# Altium footprint library SparkFun-Boards.PCBLIB: 59 footprints (part 2 of 4)
Each footprint in its own frame and in the unit in brackets; x right, y up, seen from the top. Pads: shape width x height; smd on the part's side, far side on the other; paste and mask are expansions set on the pad; w line width, h text height; cw(c..) or ccw(c..) is an arc to the next point about the centre after c.
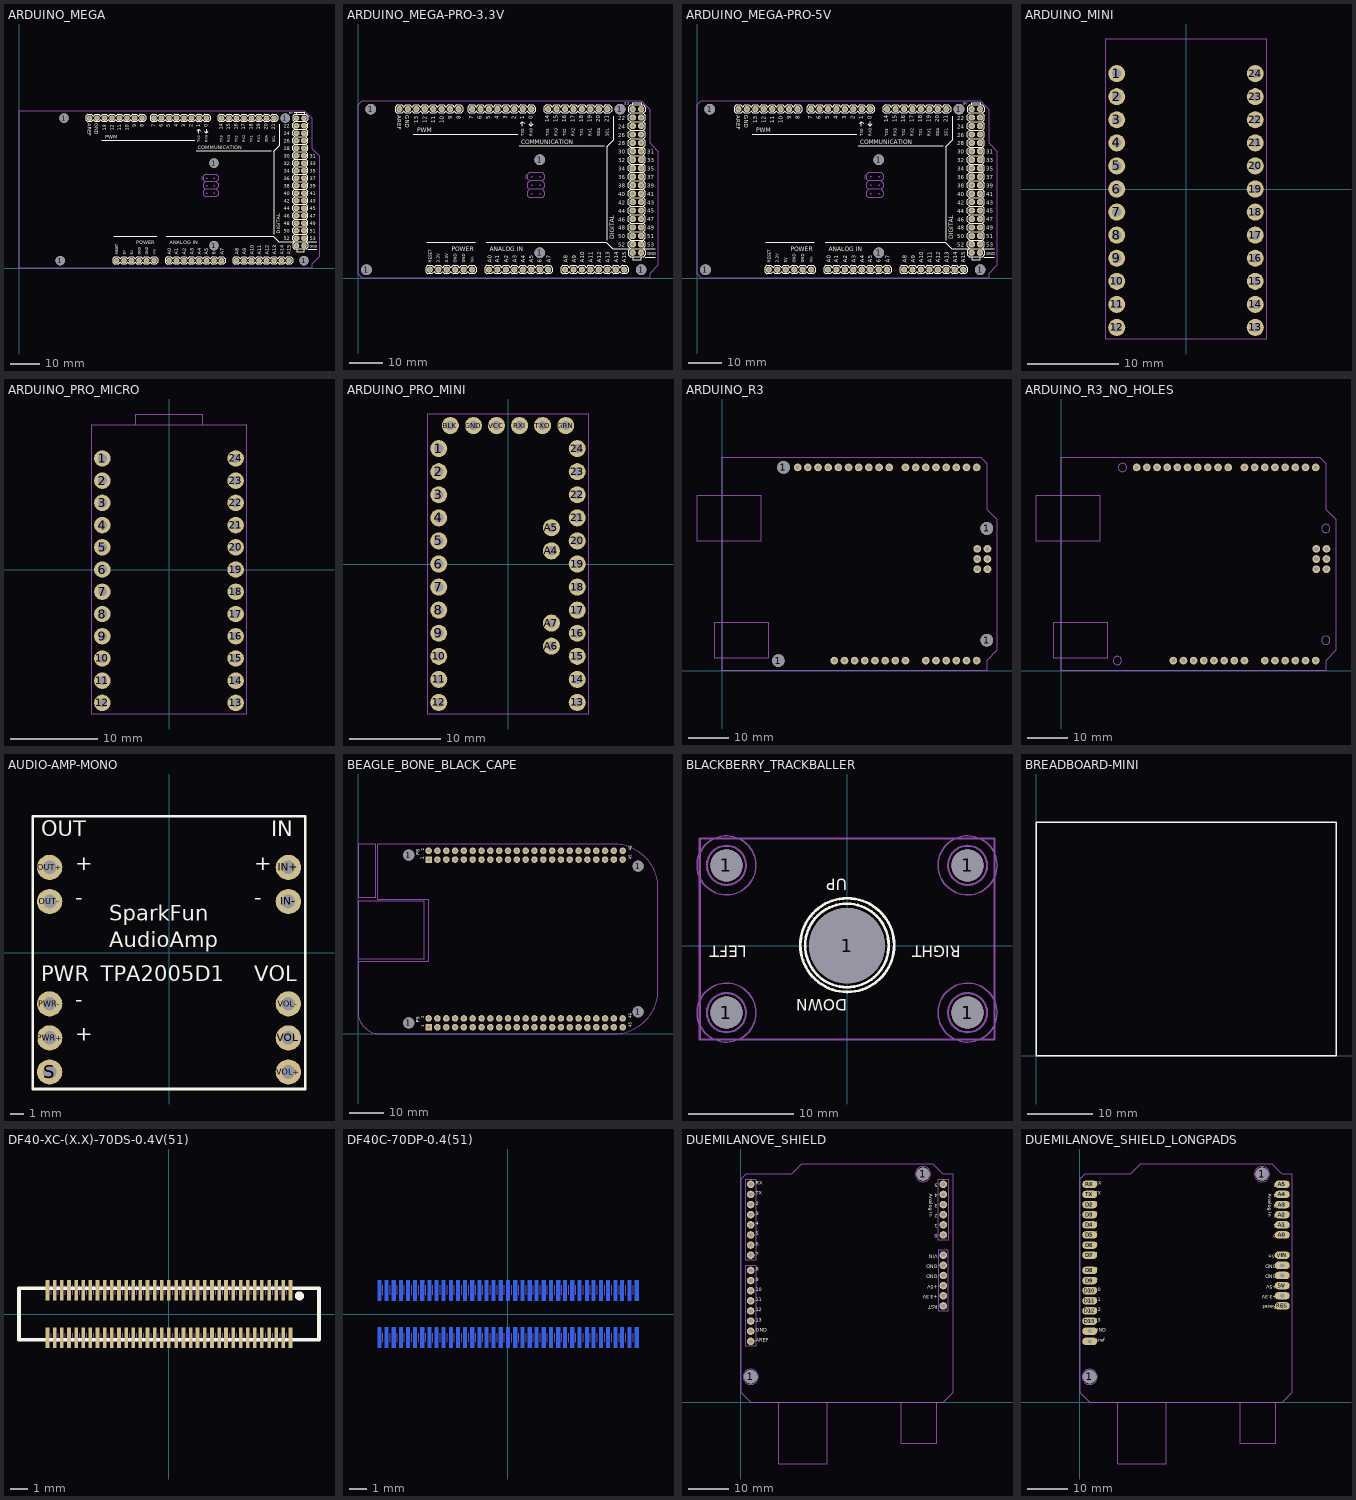
[diagram p1: the footprints below, top view; thin cyan lines are the x and y axes]

## ARDUINO_MEGA [mil]
pads (88):
  round 74 hole 40: 0(2500,2000) 1(2400,2000) 2(2300,2000) 3(2200,2000) 3.3V(1400,100) 4(2100,2000) 5(2000,2000) 5V@0(1500,100) 5V@1(3700,2000) 5V@2(3800,2000) 6(1900,2000) 7(1800,2000) 8(1640,2000) 9(1540,2000) 10(1440,2000) 11(1340,2000) 12(1240,2000) 13(1140,2000) 14(2700,2000) 15(2800,2000) 16(2900,2000) 17(3000,2000) 18(3100,2000) 19(3200,2000) 20(3300,2000) 21(3400,2000) A0(2000,100) A1(2100,100) A2(2200,100) A3(2300,100) A4(2400,100) A5(2500,100) A6(2600,100) A7(2700,100) A8(2900,100) A9(3000,100) A10(3100,100) A11(3200,100) A12(3300,100) A13(3400,100) A14(3500,100) A15(3600,100) AREF(940,2000) GND@0(1600,100) GND@1(1700,100) GND@2(3700,300) GND@3(3800,300) GND@4(1040,2000) RESET(1300,100) VIN(1800,100)
  round 126 hole 126: 1(550,100) 1(600,2000) 1(2600,300) 1(2600,1400) 1(3550,2000) 1(3800,100)
  oct 74x74 hole 40: 22(3700,1900) 23(3800,1900) 24(3700,1800) 25(3800,1800) 26(3700,1700) 27(3800,1700) 28(3700,1600) 29(3800,1600) 30(3700,1500) 31(3800,1500) 32(3700,1400) 33(3800,1400) 34(3700,1300) 35(3800,1300) 36(3700,1200) 37(3800,1200) 38(3700,1100) 39(3800,1100) 40(3700,1000) 41(3800,1000) 42(3700,900) 43(3800,900) 44(3700,800) 45(3800,800) 46(3700,700) 47(3800,700) 48(3700,600) 49(3800,600) 50(3700,500) 51(3800,500) 52(3700,400) 53(3800,400)
Top Overlay:
  drawing of 438 lines, arcs and shapes, not listed
  text "0" at 2515,1880 h47.6
  text "1" at 2415,1880 h47.6
  text "2" at 2315,1880 h47.6
  text "3" at 2215,1880 h47.6
  text "4" at 2115,1880 h47.6
  text "5" at 2015,1880 h47.6
  text "6" at 1915,1880 h47.6
  text "7" at 1815,1880 h47.6
  text "8" at 1665,1880 h47.6
  text "9" at 1565,1880 h47.6
  text "10" at 1465,1830 h47.6
  text "11" at 1365,1830 h47.6
  text "12" at 1265,1830 h47.6
  text "13" at 1165,1830 h47.6
  text "14" at 2715,1845 h47.6
  text "15" at 2815,1845 h47.6
  text "16" at 2915,1845 h47.6
  text "17" at 3015,1845 h47.6
  text "18" at 3115,1845 h47.6
  text "19" at 3215,1845 h47.6
  text "20" at 3315,1845 h47.6
  text "21" at 3415,1845 h47.6
  text "22" at 3531,1870 h47.6
  text "24" at 3531,1770 h47.6
  text "26" at 3531,1670 h47.6
  text "28" at 3531,1570 h47.6
  text "30" at 3531,1470 h47.6
  text "32" at 3531,1370 h47.6
  text "34" at 3531,1270 h47.6
  text "36" at 3531,1170 h47.6
  text "38" at 3531,1070 h47.6
  text "40" at 3531,970 h47.6
  text "42" at 3531,870 h47.6
  text "44" at 3531,770 h47.6
  text "46" at 3531,670 h47.6
  text "50" at 3531,470 h47.6
  text "48" at 3531,570 h47.6
  text "52" at 3531,370 h47.6
  text "31" at 3875,1471 h47.6
  text "33" at 3875,1371 h47.6
  text "35" at 3875,1271 h47.6
  text "37" at 3875,1171 h47.6
  text "39" at 3875,1071 h47.6
  text "41" at 3875,971 h47.6
  text "43" at 3875,871 h47.6
  text "45" at 3875,771 h47.6
  text "47" at 3875,671 h47.6
  text "49" at 3875,571 h47.6
  text "51" at 3875,471 h47.6
  text "53" at 3875,371 h47.6
  text "A0" at 2030,181 h47.6
  text "A1" at 2120,181 h47.6
  text "A2" at 2230,181 h47.6
  text "A3" at 2330,181 h47.6
  text "A4" at 2430,181 h47.6
  text "A5" at 2525,181 h47.6
  text "6" at 2625,181 h47.6
  text "A7" at 2730,181 h47.6
  text "A8" at 2930,181 h47.6
  text "A9" at 3030,181 h47.6
  text "A10" at 3130,181 h47.6
  text "A11" at 3230,181 h47.6
  text "A12" at 3330,181 h47.6
  text "A13" at 3430,181 h47.6
  text "A14" at 3530,181 h47.6
  text "A15" at 3625,181 h47.6
  text "ANALOG IN" at 2010,320 h51
  text "COMMUNICATION" at 2380,1585 h51
  text "DIGITAL" at 3485,460 h51
  text "GND" at 3875,271 h34
  text "TX0" at 2415,1680 h34
  text "RX0" at 2515,1680 h34
  text "PWM" at 1150,1725 h51
  text "TX3" at 2715,1680 h34
  text "RX3" at 2815,1680 h34
  text "TX2" at 2915,1680 h34
  text "RX2" at 3015,1680 h34
  text "TX1" at 3115,1680 h34
  text "RX1" at 3215,1680 h34
  text "SDA" at 3315,1680 h34
  text "SCL" at 3415,1680 h34
  text "POWER" at 1560,320 h51
  text "RESET" at 1320,181 h34
  text "5V" at 1420,181 h34
  text "5V" at 1520,181 h34
  text "GND" at 1620,181 h34
  text "GND" at 1720,181 h34
  text "Vin" at 1820,181 h34
  text "GND" at 1010,1930 h47.6
  text "AREF" at 915,1930 h47.6
  text "5V" at 3600,2050 h29.75
Mechanical 16:
  rectangle: 3490,90 3510,110
  rectangle: 3390,90 3410,110
  rectangle: 3290,90 3310,110
  rectangle: 3190,90 3210,110
  rectangle: 3090,90 3110,110
  rectangle: 2990,90 3010,110
  rectangle: 2890,90 2910,110
  rectangle: 3590,90 3610,110
  rectangle: 3290,1990 3310,2010
  rectangle: 3190,1990 3210,2010
  rectangle: 3090,1990 3110,2010
  rectangle: 2990,1990 3010,2010
  rectangle: 2890,1990 2910,2010
  rectangle: 2790,1990 2810,2010
  rectangle: 2690,1990 2710,2010
  rectangle: 3390,1990 3410,2010
  rectangle: 2590,90 2610,110
  rectangle: 2490,90 2510,110
  rectangle: 2390,90 2410,110
  rectangle: 2290,90 2310,110
  rectangle: 2190,90 2210,110
  rectangle: 2090,90 2110,110
  rectangle: 1990,90 2010,110
  rectangle: 2690,90 2710,110
  rectangle: 2390,1990 2410,2010
  rectangle: 2290,1990 2310,2010
  rectangle: 2190,1990 2210,2010
  rectangle: 2090,1990 2110,2010
  rectangle: 1990,1990 2010,2010
  rectangle: 1890,1990 1910,2010
  rectangle: 1790,1990 1810,2010
  rectangle: 2490,1990 2510,2010
  rectangle: 1530,1990 1550,2010
  rectangle: 1430,1990 1450,2010
  rectangle: 1330,1990 1350,2010
  rectangle: 1230,1990 1250,2010
  rectangle: 1130,1990 1150,2010
  rectangle: 1030,1990 1050,2010
  rectangle: 930,1990 950,2010
  rectangle: 1630,1990 1650,2010
  region: 2495,1210 2495,1190 2515,1190 2515,1210
  region: 2595,1210 2595,1190 2615,1190 2615,1210
  region: 2595,1110 2595,1090 2615,1090 2615,1110
  region: 2495,1110 2495,1090 2515,1090 2515,1110
  region: 2595,1010 2595,990 2615,990 2615,1010
  region: 2495,1010 2495,990 2515,990 2515,1010
  region: 3810,1190 3810,1210 3790,1210 3790,1190
  region: 3710,1190 3710,1210 3690,1210 3690,1190
  region: 3710,1290 3710,1310 3690,1310 3690,1290
  region: 3810,1290 3810,1310 3790,1310 3790,1290
  region: 3710,1390 3710,1410 3690,1410 3690,1390
  region: 3810,1390 3810,1410 3790,1410 3790,1390
  region: 3710,1490 3710,1510 3690,1510 3690,1490
  region: 3710,1590 3710,1610 3690,1610 3690,1590
  region: 3710,1690 3710,1710 3690,1710 3690,1690
  region: 3810,1490 3810,1510 3790,1510 3790,1490
  region: 3810,1590 3810,1610 3790,1610 3790,1590
  region: 3810,1690 3810,1710 3790,1710 3790,1690
  region: 3710,1790 3710,1810 3690,1810 3690,1790
  region: 3810,1790 3810,1810 3790,1810 3790,1790
  region: 3710,1890 3710,1910 3690,1910 3690,1890
  region: 3810,1890 3810,1910 3790,1910 3790,1890
  region: 3810,390 3810,410 3790,410 3790,390
  region: 3710,390 3710,410 3690,410 3690,390
  region: 3710,490 3710,510 3690,510 3690,490
  region: 3810,490 3810,510 3790,510 3790,490
  region: 3710,590 3710,610 3690,610 3690,590
  region: 3810,590 3810,610 3790,610 3790,590
  region: 3710,690 3710,710 3690,710 3690,690
  region: 3710,790 3710,810 3690,810 3690,790
  region: 3710,890 3710,910 3690,910 3690,890
  region: 3810,690 3810,710 3790,710 3790,690
  region: 3810,790 3810,810 3790,810 3790,790
  region: 3810,890 3810,910 3790,910 3790,890
  region: 3710,990 3710,1010 3690,1010 3690,990
  region: 3810,990 3810,1010 3790,1010 3790,990
  region: 3710,1090 3710,1110 3690,1110 3690,1090
  region: 3810,1090 3810,1110 3790,1110 3790,1090
  rectangle: 3790,290 3810,310
  rectangle: 3690,290 3710,310
  rectangle: 3790,1990 3810,2010
  rectangle: 3690,1990 3710,2010
  rectangle: 1790,90 1810,110
  rectangle: 1690,90 1710,110
  rectangle: 1590,90 1610,110
  rectangle: 1490,90 1510,110
  rectangle: 1390,90 1410,110
  rectangle: 1290,90 1310,110
  lines w8: 2442,1175 2442,1225 ; 2480,1050 2455,1075 2455,1125 2480,1150 ; 2480,1050 2455,1025 2455,975 2480,950 2630,950 2655,975 2655,1025 2630,1050 ; 2480,1050 2630,1050 ; 2480,1150 2455,1175 2455,1225 2480,1250 2630,1250 2655,1225 2655,1175 2630,1150 ; 2480,1150 2630,1150 ; 2630,1050 2655,1075 2655,1125 2630,1150 ; 0,0 3900,0 3900,50 4000,150 4000,1500 3900,1600 3900,2000 3800,2100 0,2100 0,0

## ARDUINO_MEGA-PRO-3.3V [mil]
pads (88):
  round 74 hole 40: 0(2050,2000) 1(1950,2000) 2(1850,2000) 3(1750,2000) 3.3V(950,100) 4(1650,2000) 5(1550,2000) 5V@0(1050,100) 5V@1(3250,2000) 5V@2(3350,2000) 6(1450,2000) 7(1350,2000) 8(1190,2000) 9(1090,2000) 10(990,2000) 11(890,2000) 12(790,2000) 13(690,2000) 14(2250,2000) 15(2350,2000) 16(2450,2000) 17(2550,2000) 18(2650,2000) 19(2750,2000) 20(2850,2000) 21(2950,2000) A0(1550,100) A1(1650,100) A2(1750,100) A3(1850,100) A4(1950,100) A5(2050,100) A6(2150,100) A7(2250,100) A8(2450,100) A9(2550,100) A10(2650,100) A11(2750,100) A12(2850,100) A13(2950,100) A14(3050,100) A15(3150,100) AREF(490,2000) GND@0(1150,100) GND@1(1250,100) GND@2(3250,300) GND@3(3350,300) GND@4(590,2000) RESET(850,100) VIN(1350,100)
  round 126 hole 126: 1(100,100) 1(150,2000) 1(2150,300) 1(2150,1400) 1(3100,2000) 1(3350,100)
  oct 74x74 hole 40: 22(3250,1900) 23(3350,1900) 24(3250,1800) 25(3350,1800) 26(3250,1700) 27(3350,1700) 28(3250,1600) 29(3350,1600) 30(3250,1500) 31(3350,1500) 32(3250,1400) 33(3350,1400) 34(3250,1300) 35(3350,1300) 36(3250,1200) 37(3350,1200) 38(3250,1100) 39(3350,1100) 40(3250,1000) 41(3350,1000) 42(3250,900) 43(3350,900) 44(3250,800) 45(3350,800) 46(3250,700) 47(3350,700) 48(3250,600) 49(3350,600) 50(3250,500) 51(3350,500) 52(3250,400) 53(3350,400)
Top Overlay:
  drawing of 437 lines, arcs and shapes, not listed
  text "0" at 2065,1880 h47.6
  text "1" at 1965,1880 h47.6
  text "2" at 1865,1880 h47.6
  text "3" at 1765,1880 h47.6
  text "4" at 1665,1880 h47.6
  text "5" at 1565,1880 h47.6
  text "6" at 1465,1880 h47.6
  text "7" at 1365,1880 h47.6
  text "8" at 1215,1880 h47.6
  text "9" at 1115,1880 h47.6
  text "10" at 1015,1830 h47.6
  text "11" at 915,1830 h47.6
  text "12" at 815,1830 h47.6
  text "13" at 715,1830 h47.6
  text "14" at 2265,1845 h47.6
  text "15" at 2365,1845 h47.6
  text "16" at 2465,1845 h47.6
  text "17" at 2565,1845 h47.6
  text "18" at 2665,1845 h47.6
  text "19" at 2765,1845 h47.6
  text "20" at 2865,1845 h47.6
  text "21" at 2965,1845 h47.6
  text "22" at 3081,1870 h47.6
  text "24" at 3081,1770 h47.6
  text "26" at 3081,1670 h47.6
  text "28" at 3081,1570 h47.6
  text "30" at 3081,1470 h47.6
  text "32" at 3081,1370 h47.6
  text "34" at 3081,1270 h47.6
  text "36" at 3081,1170 h47.6
  text "38" at 3081,1070 h47.6
  text "40" at 3081,970 h47.6
  text "42" at 3081,870 h47.6
  text "44" at 3081,770 h47.6
  text "46" at 3081,670 h47.6
  text "50" at 3081,470 h47.6
  text "48" at 3081,570 h47.6
  text "52" at 3081,370 h47.6
  text "31" at 3425,1471 h47.6
  text "33" at 3425,1371 h47.6
  text "35" at 3425,1271 h47.6
  text "37" at 3425,1171 h47.6
  text "39" at 3425,1071 h47.6
  text "41" at 3425,971 h47.6
  text "43" at 3425,871 h47.6
  text "45" at 3425,771 h47.6
  text "47" at 3425,671 h47.6
  text "49" at 3425,571 h47.6
  text "51" at 3425,471 h47.6
  text "53" at 3425,371 h47.6
  text "A0" at 1580,181 h47.6
  text "A1" at 1670,181 h47.6
  text "A2" at 1780,181 h47.6
  text "A3" at 1880,181 h47.6
  text "A4" at 1980,181 h47.6
  text "A5" at 2075,181 h47.6
  text "6" at 2175,181 h47.6
  text "A7" at 2280,181 h47.6
  text "A8" at 2480,181 h47.6
  text "A9" at 2580,181 h47.6
  text "A10" at 2680,181 h47.6
  text "A11" at 2780,181 h47.6
  text "A12" at 2880,181 h47.6
  text "A13" at 2980,181 h47.6
  text "A14" at 3080,181 h47.6
  text "A15" at 3175,181 h47.6
  text "ANALOG IN" at 1560,320 h51
  text "COMMUNICATION" at 1930,1585 h51
  text "DIGITAL" at 3035,460 h51
  text "GND" at 3425,271 h34
  text "TX0" at 1965,1680 h34
  text "RX0" at 2065,1680 h34
  text "PWM" at 700,1725 h51
  text "TX3" at 2265,1680 h34
  text "RX3" at 2365,1680 h34
  text "TX2" at 2465,1680 h34
  text "RX2" at 2565,1680 h34
  text "TX1" at 2665,1680 h34
  text "RX1" at 2765,1680 h34
  text "SDA" at 2865,1680 h34
  text "SCL" at 2965,1680 h34
  text "POWER" at 1110,320 h51
  text "RESET" at 870,181 h34
  text "3.3V" at 970,181 h34
  text "3.3V" at 1070,181 h34
  text "GND" at 1170,181 h34
  text "GND" at 1270,181 h34
  text "Vin" at 1370,181 h34
  text "GND" at 560,1930 h47.6
  text "AREF" at 465,1930 h47.6
  text "3.3" at 3150,2050 h29.75
Mechanical 16:
  rectangle: 3040,90 3060,110
  rectangle: 2940,90 2960,110
  rectangle: 2840,90 2860,110
  rectangle: 2740,90 2760,110
  rectangle: 2640,90 2660,110
  rectangle: 2540,90 2560,110
  rectangle: 2440,90 2460,110
  rectangle: 3140,90 3160,110
  rectangle: 2840,1990 2860,2010
  rectangle: 2740,1990 2760,2010
  rectangle: 2640,1990 2660,2010
  rectangle: 2540,1990 2560,2010
  rectangle: 2440,1990 2460,2010
  rectangle: 2340,1990 2360,2010
  rectangle: 2240,1990 2260,2010
  rectangle: 2940,1990 2960,2010
  rectangle: 2140,90 2160,110
  rectangle: 2040,90 2060,110
  rectangle: 1940,90 1960,110
  rectangle: 1840,90 1860,110
  rectangle: 1740,90 1760,110
  rectangle: 1640,90 1660,110
  rectangle: 1540,90 1560,110
  rectangle: 2240,90 2260,110
  rectangle: 1940,1990 1960,2010
  rectangle: 1840,1990 1860,2010
  rectangle: 1740,1990 1760,2010
  rectangle: 1640,1990 1660,2010
  rectangle: 1540,1990 1560,2010
  rectangle: 1440,1990 1460,2010
  rectangle: 1340,1990 1360,2010
  rectangle: 2040,1990 2060,2010
  rectangle: 1080,1990 1100,2010
  rectangle: 980,1990 1000,2010
  rectangle: 880,1990 900,2010
  rectangle: 780,1990 800,2010
  rectangle: 680,1990 700,2010
  rectangle: 580,1990 600,2010
  rectangle: 480,1990 500,2010
  rectangle: 1180,1990 1200,2010
  region: 2045,1210 2045,1190 2065,1190 2065,1210
  region: 2145,1210 2145,1190 2165,1190 2165,1210
  region: 2145,1110 2145,1090 2165,1090 2165,1110
  region: 2045,1110 2045,1090 2065,1090 2065,1110
  region: 2145,1010 2145,990 2165,990 2165,1010
  region: 2045,1010 2045,990 2065,990 2065,1010
  region: 3360,1190 3360,1210 3340,1210 3340,1190
  region: 3260,1190 3260,1210 3240,1210 3240,1190
  region: 3260,1290 3260,1310 3240,1310 3240,1290
  region: 3360,1290 3360,1310 3340,1310 3340,1290
  region: 3260,1390 3260,1410 3240,1410 3240,1390
  region: 3360,1390 3360,1410 3340,1410 3340,1390
  region: 3260,1490 3260,1510 3240,1510 3240,1490
  region: 3260,1590 3260,1610 3240,1610 3240,1590
  region: 3260,1690 3260,1710 3240,1710 3240,1690
  region: 3360,1490 3360,1510 3340,1510 3340,1490
  region: 3360,1590 3360,1610 3340,1610 3340,1590
  region: 3360,1690 3360,1710 3340,1710 3340,1690
  region: 3260,1790 3260,1810 3240,1810 3240,1790
  region: 3360,1790 3360,1810 3340,1810 3340,1790
  region: 3260,1890 3260,1910 3240,1910 3240,1890
  region: 3360,1890 3360,1910 3340,1910 3340,1890
  region: 3360,390 3360,410 3340,410 3340,390
  region: 3260,390 3260,410 3240,410 3240,390
  region: 3260,490 3260,510 3240,510 3240,490
  region: 3360,490 3360,510 3340,510 3340,490
  region: 3260,590 3260,610 3240,610 3240,590
  region: 3360,590 3360,610 3340,610 3340,590
  region: 3260,690 3260,710 3240,710 3240,690
  region: 3260,790 3260,810 3240,810 3240,790
  region: 3260,890 3260,910 3240,910 3240,890
  region: 3360,690 3360,710 3340,710 3340,690
  region: 3360,790 3360,810 3340,810 3340,790
  region: 3360,890 3360,910 3340,910 3340,890
  region: 3260,990 3260,1010 3240,1010 3240,990
  region: 3360,990 3360,1010 3340,1010 3340,990
  region: 3260,1090 3260,1110 3240,1110 3240,1090
  region: 3360,1090 3360,1110 3340,1110 3340,1090
  rectangle: 3340,290 3360,310
  rectangle: 3240,290 3260,310
  rectangle: 3340,1990 3360,2010
  rectangle: 3240,1990 3260,2010
  rectangle: 1340,90 1360,110
  rectangle: 1240,90 1260,110
  rectangle: 1140,90 1160,110
  rectangle: 1040,90 1060,110
  rectangle: 940,90 960,110
  rectangle: 840,90 860,110
  lines w8: 1992,1175 1992,1225 ; 2030,1050 2005,1075 2005,1125 2030,1150 ; 2030,1050 2005,1025 2005,975 2030,950 2180,950 2205,975 2205,1025 2180,1050 ; 2030,1050 2180,1050 ; 2030,1150 2005,1175 2005,1225 2030,1250 2180,1250 2205,1225 2205,1175 2180,1150 ; 2030,1150 2180,1150 ; 2180,1050 2205,1075 2205,1125 2180,1150 ; 0,50 50,0 3450,0 3450,50 3550,150 3550,1500 3450,1600 3450,2000 3350,2100 50,2100 0,2050 0,50

## ARDUINO_MEGA-PRO-5V [mil]
pads (88):
  round 74 hole 40: 0(2050,2000) 1(1950,2000) 2(1850,2000) 3(1750,2000) 3.3V(950,100) 4(1650,2000) 5(1550,2000) 5V@0(1050,100) 5V@1(3250,2000) 5V@2(3350,2000) 6(1450,2000) 7(1350,2000) 8(1190,2000) 9(1090,2000) 10(990,2000) 11(890,2000) 12(790,2000) 13(690,2000) 14(2250,2000) 15(2350,2000) 16(2450,2000) 17(2550,2000) 18(2650,2000) 19(2750,2000) 20(2850,2000) 21(2950,2000) A0(1550,100) A1(1650,100) A2(1750,100) A3(1850,100) A4(1950,100) A5(2050,100) A6(2150,100) A7(2250,100) A8(2450,100) A9(2550,100) A10(2650,100) A11(2750,100) A12(2850,100) A13(2950,100) A14(3050,100) A15(3150,100) AREF(490,2000) GND@0(1150,100) GND@1(1250,100) GND@2(3250,300) GND@3(3350,300) GND@4(590,2000) RESET(850,100) VIN(1350,100)
  round 126 hole 126: 1(100,100) 1(150,2000) 1(2150,300) 1(2150,1400) 1(3100,2000) 1(3350,100)
  oct 74x74 hole 40: 22(3250,1900) 23(3350,1900) 24(3250,1800) 25(3350,1800) 26(3250,1700) 27(3350,1700) 28(3250,1600) 29(3350,1600) 30(3250,1500) 31(3350,1500) 32(3250,1400) 33(3350,1400) 34(3250,1300) 35(3350,1300) 36(3250,1200) 37(3350,1200) 38(3250,1100) 39(3350,1100) 40(3250,1000) 41(3350,1000) 42(3250,900) 43(3350,900) 44(3250,800) 45(3350,800) 46(3250,700) 47(3350,700) 48(3250,600) 49(3350,600) 50(3250,500) 51(3350,500) 52(3250,400) 53(3350,400)
Top Overlay:
  drawing of 437 lines, arcs and shapes, not listed
  text "0" at 2065,1880 h47.6
  text "1" at 1965,1880 h47.6
  text "2" at 1865,1880 h47.6
  text "3" at 1765,1880 h47.6
  text "4" at 1665,1880 h47.6
  text "5" at 1565,1880 h47.6
  text "6" at 1465,1880 h47.6
  text "7" at 1365,1880 h47.6
  text "8" at 1215,1880 h47.6
  text "9" at 1115,1880 h47.6
  text "10" at 1015,1830 h47.6
  text "11" at 915,1830 h47.6
  text "12" at 815,1830 h47.6
  text "13" at 715,1830 h47.6
  text "14" at 2265,1845 h47.6
  text "15" at 2365,1845 h47.6
  text "16" at 2465,1845 h47.6
  text "17" at 2565,1845 h47.6
  text "18" at 2665,1845 h47.6
  text "19" at 2765,1845 h47.6
  text "20" at 2865,1845 h47.6
  text "21" at 2965,1845 h47.6
  text "22" at 3081,1870 h47.6
  text "24" at 3081,1770 h47.6
  text "26" at 3081,1670 h47.6
  text "28" at 3081,1570 h47.6
  text "30" at 3081,1470 h47.6
  text "32" at 3081,1370 h47.6
  text "34" at 3081,1270 h47.6
  text "36" at 3081,1170 h47.6
  text "38" at 3081,1070 h47.6
  text "40" at 3081,970 h47.6
  text "42" at 3081,870 h47.6
  text "44" at 3081,770 h47.6
  text "46" at 3081,670 h47.6
  text "50" at 3081,470 h47.6
  text "48" at 3081,570 h47.6
  text "52" at 3081,370 h47.6
  text "31" at 3425,1471 h47.6
  text "33" at 3425,1371 h47.6
  text "35" at 3425,1271 h47.6
  text "37" at 3425,1171 h47.6
  text "39" at 3425,1071 h47.6
  text "41" at 3425,971 h47.6
  text "43" at 3425,871 h47.6
  text "45" at 3425,771 h47.6
  text "47" at 3425,671 h47.6
  text "49" at 3425,571 h47.6
  text "51" at 3425,471 h47.6
  text "53" at 3425,371 h47.6
  text "A0" at 1580,181 h47.6
  text "A1" at 1670,181 h47.6
  text "A2" at 1780,181 h47.6
  text "A3" at 1880,181 h47.6
  text "A4" at 1980,181 h47.6
  text "A5" at 2075,181 h47.6
  text "6" at 2175,181 h47.6
  text "A7" at 2280,181 h47.6
  text "A8" at 2480,181 h47.6
  text "A9" at 2580,181 h47.6
  text "A10" at 2680,181 h47.6
  text "A11" at 2780,181 h47.6
  text "A12" at 2880,181 h47.6
  text "A13" at 2980,181 h47.6
  text "A14" at 3080,181 h47.6
  text "A15" at 3175,181 h47.6
  text "ANALOG IN" at 1560,320 h51
  text "COMMUNICATION" at 1930,1585 h51
  text "DIGITAL" at 3035,460 h51
  text "GND" at 3425,271 h34
  text "TX0" at 1965,1680 h34
  text "RX0" at 2065,1680 h34
  text "PWM" at 700,1725 h51
  text "TX3" at 2265,1680 h34
  text "RX3" at 2365,1680 h34
  text "TX2" at 2465,1680 h34
  text "RX2" at 2565,1680 h34
  text "TX1" at 2665,1680 h34
  text "RX1" at 2765,1680 h34
  text "SDA" at 2865,1680 h34
  text "SCL" at 2965,1680 h34
  text "POWER" at 1110,320 h51
  text "RESET" at 870,181 h34
  text "3.3V" at 970,181 h34
  text "5V" at 1070,181 h34
  text "GND" at 1170,181 h34
  text "GND" at 1270,181 h34
  text "Vin" at 1370,181 h34
  text "GND" at 560,1930 h47.6
  text "AREF" at 465,1930 h47.6
  text "5V" at 3150,2050 h29.75
Mechanical 16:
  rectangle: 3040,90 3060,110
  rectangle: 2940,90 2960,110
  rectangle: 2840,90 2860,110
  rectangle: 2740,90 2760,110
  rectangle: 2640,90 2660,110
  rectangle: 2540,90 2560,110
  rectangle: 2440,90 2460,110
  rectangle: 3140,90 3160,110
  rectangle: 2840,1990 2860,2010
  rectangle: 2740,1990 2760,2010
  rectangle: 2640,1990 2660,2010
  rectangle: 2540,1990 2560,2010
  rectangle: 2440,1990 2460,2010
  rectangle: 2340,1990 2360,2010
  rectangle: 2240,1990 2260,2010
  rectangle: 2940,1990 2960,2010
  rectangle: 2140,90 2160,110
  rectangle: 2040,90 2060,110
  rectangle: 1940,90 1960,110
  rectangle: 1840,90 1860,110
  rectangle: 1740,90 1760,110
  rectangle: 1640,90 1660,110
  rectangle: 1540,90 1560,110
  rectangle: 2240,90 2260,110
  rectangle: 1940,1990 1960,2010
  rectangle: 1840,1990 1860,2010
  rectangle: 1740,1990 1760,2010
  rectangle: 1640,1990 1660,2010
  rectangle: 1540,1990 1560,2010
  rectangle: 1440,1990 1460,2010
  rectangle: 1340,1990 1360,2010
  rectangle: 2040,1990 2060,2010
  rectangle: 1080,1990 1100,2010
  rectangle: 980,1990 1000,2010
  rectangle: 880,1990 900,2010
  rectangle: 780,1990 800,2010
  rectangle: 680,1990 700,2010
  rectangle: 580,1990 600,2010
  rectangle: 480,1990 500,2010
  rectangle: 1180,1990 1200,2010
  region: 2045,1210 2045,1190 2065,1190 2065,1210
  region: 2145,1210 2145,1190 2165,1190 2165,1210
  region: 2145,1110 2145,1090 2165,1090 2165,1110
  region: 2045,1110 2045,1090 2065,1090 2065,1110
  region: 2145,1010 2145,990 2165,990 2165,1010
  region: 2045,1010 2045,990 2065,990 2065,1010
  region: 3360,1190 3360,1210 3340,1210 3340,1190
  region: 3260,1190 3260,1210 3240,1210 3240,1190
  region: 3260,1290 3260,1310 3240,1310 3240,1290
  region: 3360,1290 3360,1310 3340,1310 3340,1290
  region: 3260,1390 3260,1410 3240,1410 3240,1390
  region: 3360,1390 3360,1410 3340,1410 3340,1390
  region: 3260,1490 3260,1510 3240,1510 3240,1490
  region: 3260,1590 3260,1610 3240,1610 3240,1590
  region: 3260,1690 3260,1710 3240,1710 3240,1690
  region: 3360,1490 3360,1510 3340,1510 3340,1490
  region: 3360,1590 3360,1610 3340,1610 3340,1590
  region: 3360,1690 3360,1710 3340,1710 3340,1690
  region: 3260,1790 3260,1810 3240,1810 3240,1790
  region: 3360,1790 3360,1810 3340,1810 3340,1790
  region: 3260,1890 3260,1910 3240,1910 3240,1890
  region: 3360,1890 3360,1910 3340,1910 3340,1890
  region: 3360,390 3360,410 3340,410 3340,390
  region: 3260,390 3260,410 3240,410 3240,390
  region: 3260,490 3260,510 3240,510 3240,490
  region: 3360,490 3360,510 3340,510 3340,490
  region: 3260,590 3260,610 3240,610 3240,590
  region: 3360,590 3360,610 3340,610 3340,590
  region: 3260,690 3260,710 3240,710 3240,690
  region: 3260,790 3260,810 3240,810 3240,790
  region: 3260,890 3260,910 3240,910 3240,890
  region: 3360,690 3360,710 3340,710 3340,690
  region: 3360,790 3360,810 3340,810 3340,790
  region: 3360,890 3360,910 3340,910 3340,890
  region: 3260,990 3260,1010 3240,1010 3240,990
  region: 3360,990 3360,1010 3340,1010 3340,990
  region: 3260,1090 3260,1110 3240,1110 3240,1090
  region: 3360,1090 3360,1110 3340,1110 3340,1090
  rectangle: 3340,290 3360,310
  rectangle: 3240,290 3260,310
  rectangle: 3340,1990 3360,2010
  rectangle: 3240,1990 3260,2010
  rectangle: 1340,90 1360,110
  rectangle: 1240,90 1260,110
  rectangle: 1140,90 1160,110
  rectangle: 1040,90 1060,110
  rectangle: 940,90 960,110
  rectangle: 840,90 860,110
  lines w8: 1992,1175 1992,1225 ; 2030,1050 2005,1075 2005,1125 2030,1150 ; 2030,1050 2005,1025 2005,975 2030,950 2180,950 2205,975 2205,1025 2180,1050 ; 2030,1050 2180,1050 ; 2030,1150 2005,1175 2005,1225 2030,1250 2180,1250 2205,1225 2205,1175 2180,1150 ; 2030,1150 2180,1150 ; 2180,1050 2205,1075 2205,1125 2180,1150 ; 0,50 50,0 3450,0 3450,50 3550,150 3550,1500 3450,1600 3450,2000 3350,2100 50,2100 0,2050 0,50

## ARDUINO_MINI [mil]
pads (24):
  round 74 hole 40: 1(-300,500) 2(-300,400) 3(-300,300) 4(-300,200) 5(-300,100) 6(-300,0) 7(-300,-100) 8(-300,-200) 9(-300,-300) 10(-300,-400) 11(-300,-500) 12(-300,-600) 13(300,-600) 14(300,-500) 15(300,-400) 16(300,-300) 17(300,-200) 18(300,-100) 19(300,0) 20(300,100) 21(300,200) 22(300,300) 23(300,400) 24(300,500)
Mechanical 2:
  text ">NAME" at -150,-550 h77.5
Mechanical 4:
  text ">VALUE" at -150,-625 h77.5
Mechanical 16:
  lines w5: -350,-650 -350,650 350,650 350,-650 -350,-650

## ARDUINO_PRO_MICRO [mil]
pads (24):
  round 74 hole 40: 1(-300,500) 2(-300,400) 3(-300,300) 4(-300,200) 5(-300,100) 6(-300,0) 7(-300,-100) 8(-300,-200) 9(-300,-300) 10(-300,-400) 11(-300,-500) 12(-300,-600) 13(300,-600) 14(300,-500) 15(300,-400) 16(300,-300) 17(300,-200) 18(300,-100) 19(300,0) 20(300,100) 21(300,200) 22(300,300) 23(300,400) 24(300,500)
Mechanical 2:
  text ">NAME" at -150,-550 h77.5
Mechanical 4:
  text ">VALUE" at -150,-625 h77.5
Mechanical 16:
  lines w5: -150,650 -150,700 150,700 150,650 ; -350,-650 -350,650 350,650 350,-650 -350,-650

## ARDUINO_PRO_MINI [mil]
pads (34):
  round 74 hole 40: 1(-300,500) 2(-300,400) 3(-300,300) 4(-300,200) 5(-300,100) 6(-300,0) 7(-300,-100) 8(-300,-200) 9(-300,-300) 10(-300,-400) 11(-300,-500) 12(-300,-600) 13(300,-600) 14(300,-500) 15(300,-400) 16(300,-300) 17(300,-200) 18(300,-100) 19(300,0) 20(300,100) 21(300,200) 22(300,300) 23(300,400) 24(300,500) A4(188,57) A5(188,157) A6(188,-356.25) A7(188,-256.25) BLK(-250,600) GND(-150,600) GRN(250,600) RXI(50,600) TXO(150,600) VCC(-50,600)
Mechanical 2:
  text ">NAME" at -150,-550 h77.5
Mechanical 4:
  text ">VALUE" at -150,-625 h77.5
Mechanical 16:
  lines w5: -350,-650 -350,650 350,650 350,-650 -350,-650

## ARDUINO_R3 [mil]
pads (42):
  round 125 hole 125: 1(550,100) 1(600,2000) 1(2600,300) 1(2600,1400)
  round 76 hole 40: 3.3V(1400,100) 5V(1500,100) A0(2000,100) A1(2100,100) A2(2200,100) A3(2300,100) A4(2400,100) A5(2500,100) AREF(940,2000) D0(2500,2000) D1(2400,2000) D2(2300,2000) D3(2200,2000) D4(2100,2000) D5(2000,2000) D6(1900,2000) D7(1800,2000) D8(1640,2000) D9(1540,2000) D10(1440,2000) D11(1340,2000) D12(1240,2000) D13(1140,2000) GND@1(1600,100) GND@2(1700,100) GND@3(1040,2000) GND@4(2606,999) IOREF(1200,100) MISO(2506,1199) MOSI(2606,1099) NC(1100,100) RESET@1(1300,100) RESET@2(2506,999) SCK(2506,1099) SCL(740,2000) SDA(840,2000) VCC(2606,1199) VIN(1800,100)
Mechanical 16:
  lines w8: -250,1275 375,1275 375,1725 -250,1725 -250,1275 ; -75,125 -75,475 450,475 450,125 -75,125 ; 0,0 0,2100 2540,2100 2600,2040 2600,1590 2700,1490 2700,200 2600,100 2600,0 0,0
  text "SCL" at 740,1950 h27.2
  text "SDA" at 840,1950 h27.2
  text "AREF" at 940,1950 h27.2
  text "GND" at 1040,1950 h27.2
  text "D13" at 1140,1950 h27.2
  text "D12" at 1240,1950 h27.2
  text "D11" at 1340,1950 h27.2
  text "D10" at 1440,1950 h27.2
  text "D9" at 1540,1950 h27.2
  text "D8" at 1640,1950 h27.2
  text "D7" at 1800,1950 h27.2
  text "D6" at 1900,1950 h27.2
  text "D5" at 2000,1950 h27.2
  text "D4" at 2100,1950 h27.2
  text "D3" at 2200,1950 h27.2
  text "D2" at 2300,1950 h27.2
  text "D0/RXI" at 2500,1950 h27.2
  text "D1/TXO" at 2400,1950 h27.2
  text "!RESET!" at 1300,150 h27.2
  text "3.3V" at 1400,150 h27.2
  text "5V" at 1500,150 h27.2
  text "GND" at 1600,150 h27.2
  text "GND" at 1700,150 h27.2
  text "VIN" at 1800,150 h27.2
  text "A0" at 2000,150 h27.2
  text "A1" at 2100,150 h27.2
  text "A2" at 2200,150 h27.2
  text "A3" at 2300,150 h27.2
  text "A4" at 2400,150 h27.2
  text "A5" at 2500,150 h27.2
  text "IOREF" at 1200,150 h27.2
  text "MISO" at 2450,1200 h27.2
  text "SCK" at 2450,1100 h27.2
  text "RST" at 2450,1000 h27.2
  text "GND" at 2650,1000 h27.2
  text "MOSI" at 2650,1100 h27.2
  text "5V" at 2650,1200 h27.2

## ARDUINO_R3_NO_HOLES [mil]
pads (38):
  round 76 hole 40: 3.3V(1400,100) 5V(1500,100) A0(2000,100) A1(2100,100) A2(2200,100) A3(2300,100) A4(2400,100) A5(2500,100) AREF(940,2000) D0(2500,2000) D1(2400,2000) D2(2300,2000) D3(2200,2000) D4(2100,2000) D5(2000,2000) D6(1900,2000) D7(1800,2000) D8(1640,2000) D9(1540,2000) D10(1440,2000) D11(1340,2000) D12(1240,2000) D13(1140,2000) GND@1(1600,100) GND@2(1700,100) GND@3(1040,2000) GND@4(2606,999) IOREF(1200,100) MISO(2506,1199) MOSI(2606,1099) NC(1100,100) RESET@1(1300,100) RESET@2(2506,999) SCK(2506,1099) SCL(740,2000) SDA(840,2000) VCC(2606,1199) VIN(1800,100)
Mechanical 16:
  circle w5: c550,100 r41
  circle w5: c2600,300 r41
  circle w5: c2600,1400 r41
  circle w5: c600,2000 r41
  lines w8: -250,1275 375,1275 375,1725 -250,1725 -250,1275 ; -75,125 -75,475 450,475 450,125 -75,125 ; 0,0 0,2100 2540,2100 2600,2040 2600,1590 2700,1490 2700,200 2600,100 2600,0 0,0
  text "SCL" at 740,1950 h27.2
  text "SDA" at 840,1950 h27.2
  text "AREF" at 940,1950 h27.2
  text "GND" at 1040,1950 h27.2
  text "D13" at 1140,1950 h27.2
  text "D12" at 1240,1950 h27.2
  text "D11" at 1340,1950 h27.2
  text "D10" at 1440,1950 h27.2
  text "D9" at 1540,1950 h27.2
  text "D8" at 1640,1950 h27.2
  text "D7" at 1800,1950 h27.2
  text "D6" at 1900,1950 h27.2
  text "D5" at 2000,1950 h27.2
  text "D4" at 2100,1950 h27.2
  text "D3" at 2200,1950 h27.2
  text "D2" at 2300,1950 h27.2
  text "D0/RXI" at 2500,1950 h27.2
  text "D1/TXO" at 2400,1950 h27.2
  text "!RESET!" at 1300,150 h27.2
  text "3.3V" at 1400,150 h27.2
  text "5V" at 1500,150 h27.2
  text "GND" at 1600,150 h27.2
  text "GND" at 1700,150 h27.2
  text "VIN" at 1800,150 h27.2
  text "A0" at 2000,150 h27.2
  text "A1" at 2100,150 h27.2
  text "A2" at 2200,150 h27.2
  text "A3" at 2300,150 h27.2
  text "A4" at 2400,150 h27.2
  text "A5" at 2500,150 h27.2
  text "IOREF" at 1200,150 h27.2
  text "MISO" at 2450,1200 h27.2
  text "SCK" at 2450,1100 h27.2
  text "RST" at 2450,1000 h27.2
  text "GND" at 2650,1000 h27.2
  text "MOSI" at 2650,1100 h27.2
  text "5V" at 2650,1200 h27.2

## AUDIO-AMP-MONO [mil]
pads (10):
  round 74 hole 40: IN+(350,250) IN-(350,150) OUT+(-350,250) OUT-(-350,150) PWR+(-350,-250) PWR-(-350,-150) S(-350,-350) VOL(350,-250) VOL+(350,-350) VOL-(350,-150)
Top Overlay:
  lines w8: -400,-400 400,-400 400,400 -400,400 -400,-400
  text "SparkFun" at -175,77.5 h77.5
  text "AudioAmp" at -175,0 h77.5
  text "TPA2005D1" at -200,-100 h77.5
  text "OUT" at -375,325 h77.5
  text "IN" at 300,325 h77.5
  text "+" at 250,225 h77.5
  text "-" at 250,125 h77.5
  text "-" at -275,125 h77.5
  text "+" at -275,225 h77.5
  text "PWR" at -375,-100 h77.5
  text "VOL" at 250,-100 h77.5
  text "+" at -275,-275 h77.5
  text "-" at -275,-175 h77.5

## BEAGLE_BONE_BLACK_CAPE [mil]
pads (96):
  round 125 hole 125: 1(575,125) 1(575,2025) 1(3175,250) 1(3175,1900)
  rect 74x74 hole 40: P8.1(800,1975) P9.1(800,75)
  round 74 hole 40: P8.2(800,2075) P8.3(900,1975) P8.4(900,2075) P8.5(1000,1975) P8.6(1000,2075) P8.7(1100,1975) P8.8(1100,2075) P8.9(1200,1975) P8.10(1200,2075) P8.11(1300,1975) P8.12(1300,2075) P8.13(1400,1975) P8.14(1400,2075) P8.15(1500,1975) P8.16(1500,2075) P8.17(1600,1975) P8.18(1600,2075) P8.19(1700,1975) P8.20(1700,2075) P8.21(1800,1975) P8.22(1800,2075) P8.23(1900,1975) P8.24(1900,2075) P8.25(2000,1975) P8.26(2000,2075) P8.27(2100,1975) P8.28(2100,2075) P8.29(2200,1975) P8.30(2200,2075) P8.31(2300,1975) P8.32(2300,2075) P8.33(2400,1975) P8.34(2400,2075) P8.35(2500,1975) P8.36(2500,2075) P8.37(2600,1975) P8.38(2600,2075) P8.39(2700,1975) P8.40(2700,2075) P8.41(2800,1975) P8.42(2800,2075) P8.43(2900,1975) P8.44(2900,2075) P8.45(3000,1975) P8.46(3000,2075) P9.2(800,175) P9.3(900,75) P9.4(900,175) P9.5(1000,75) P9.6(1000,175) P9.7(1100,75) P9.8(1100,175) P9.9(1200,75) P9.10(1200,175) P9.11(1300,75) P9.12(1300,175) P9.13(1400,75) P9.14(1400,175) P9.15(1500,75) P9.16(1500,175) P9.17(1600,75) P9.18(1600,175) P9.19(1700,75) P9.20(1700,175) P9.21(1800,75) P9.22(1800,175) P9.23(1900,75) P9.24(1900,175) P9.25(2000,75) P9.26(2000,175) P9.27(2100,75) P9.28(2100,175) P9.29(2200,75) P9.30(2200,175) P9.31(2300,75) P9.32(2300,175) P9.33(2400,75) P9.34(2400,175) P9.35(2500,75) P9.36(2500,175) P9.37(2600,75) P9.38(2600,175) P9.39(2700,75) P9.40(2700,175) P9.41(2800,75) P9.42(2800,175) P9.43(2900,75) P9.44(2900,175) P9.45(3000,75) P9.46(3000,175)
Top Overlay:
  text "1" at 750,1975 h42.5
  text "2" at 750,2075 h34
  text "P8" at 700,2025 h42.5
  text "45" at 3100,1975 h34
  text "46" at 3100,2075 h34
  text "46" at 3100,175 h34
  text "45" at 3100,75 h34
  text "1" at 750,75 h34
  text "2" at 750,175 h34
  text "P9" at 700,125 h42.5
Bottom Overlay:
  text "P8" at 700,2025 h42.5
  text "P9" at 700,125 h42.5
  text "1" at 750,1975 h42.5
  text "1" at 750,75 h34
  text "2" at 750,175 h34
  text "2" at 750,2075 h34
  text "46" at 3100,2075 h34
  text "45" at 3100,1975 h34
  text "45" at 3100,75 h34
  text "46" at 3100,175 h34
Mechanical 13:
  lines w5: 0,850 750,850 750,1500 0,1500 0,850 ; 0,1550 200,1550 200,2150 0,2150 0,1550
  text "Ethernet" at 300,1200 h42.5
  text "LED/Button" at 100,1850 h42.5
  text "Cutout" at 450,1200 h42.5
  text ">VALUE" at 750,-50 h42.5
  text ">NAME" at 750,2200 h42.5
Mechanical 16:
  lines w5: 0,250 ccw(c250,250) 250,0 2900,0 ccw(c2900,500) 3400,500 3400,1650 ccw(c2900,1650) 2900,2150 225,2150 225,1525 800,1525 800,825 0,825 0,250

## BLACKBERRY_TRACKBALLER [mil]
pads (5):
  round 120 hole 120: 1(-450,-250) 1(-450,300) 1(450,-250) 1(450,300)
  round 282 hole 282: 1(0,0)
Top Overlay:
  circle w10: c-0.3,1 r156
  circle w10: c1,2 r175
  region: 0,0 10,0 10,10 0,10
  region: 0,0 10,0 10,10 0,10
  text "UP" at 0,250 h42.5
  text "RIGHT" at 425,0 h42.5
  text "LEFT" at -375,0 h42.5
  text "DOWN" at 0,-200 h42.5
Mechanical 1:
  lines w8: -550,-350 550,-350 550,400 -550,400 -550,-350
Mechanical 8:
  lines w8: -450,-323 ccw(c-450,-250) -450,-177 ccw(c-450,-250) -450,-323 ; -450,227 ccw(c-450,300) -450,373 ccw(c-450,300) -450,227 ; 450,-323 ccw(c450,-250) 450,-177 ccw(c450,-250) 450,-323 ; 450,227 ccw(c450,300) 450,373 ccw(c450,300) 450,227
Mechanical 9:
  lines w8: -450,-323 ccw(c-450,-250) -450,-177 ccw(c-450,-250) -450,-323 ; -450,227 ccw(c-450,300) -450,373 ccw(c-450,300) -450,227 ; 450,-323 ccw(c450,-250) 450,-177 ccw(c450,-250) 450,-323 ; 450,227 ccw(c450,300) 450,373 ccw(c450,300) 450,227
Mechanical 27:
  circle w5: c-450,300 r110
  circle w5: c450,300 r110
  circle w5: c-450,-250 r110
  circle w5: c450,-250 r110

## BREADBOARD-MINI [mil]
Top Overlay:
  lines w8: 0,0 0,1400 1800,1400 1800,0 0,0

## DF40-XC-(X.X)-70DS-0.4V(51) [mil]
pads (70):
  rect 8x45 smd: 1(268,52) 2(268,-51.97) 3(252,52) 4(252,-51.97) 5(237,52) 6(237,-51.97) 7(221,52) 8(221,-51.97) 9(205,52) 10(205,-51.97) 11(189,52) 12(189,-51.97) 13(174,52) 14(174,-51.97) 15(158,52) 16(158,-51.97) 17(142,52) 18(142,-51.97) 19(126,52) 20(126,-51.97) 21(111,52) 22(111,-51.97) 23(95,52) 24(95,-51.97) 25(79,52) 26(79,-51.97) 27(63,52) 28(63,-51.97) 29(48,52) 30(48,-51.97) 31(32,52) 32(32,-51.97) 33(16,52) 34(16,-51.97) 35(0,52) 36(0,-51.97) 37(-15.75,52) 38(-15.75,-51.97) 39(-31.5,52) 40(-31.5,-51.97) 41(-47.24,52) 42(-47.24,-51.97) 43(-62.99,52) 44(-62.99,-51.97) 45(-78.74,52) 46(-78.74,-51.97) 47(-94.49,52) 48(-94.49,-51.97) 49(-110.24,52) 50(-110.24,-51.97) 51(-125.98,52) 52(-125.98,-51.97) 53(-141.73,52) 54(-141.73,-51.97) 55(-157.48,52) 56(-157.48,-51.97) 57(-173.23,52) 58(-173.23,-51.97) 59(-188.98,52) 60(-188.98,-51.97) 61(-204.72,52) 62(-204.72,-51.97) 63(-220.47,52) 64(-220.47,-51.97) 65(-236.22,52) 66(-236.22,-51.97) 67(-251.97,52) 68(-251.97,-51.97) 69(-267.72,52) 70(-267.72,-51.97)
Top Overlay:
  circle w12: c288,40 r4
  lines w8: -330.71,-56.69 331,-56.69 331,57 -330.71,57 -330.71,-56.69
Mechanical 8:
  lines w2: -259.84,-62.24 -259.84,-42.09 ; -259.84,42 -259.84,63 ; -244.09,-62.24 -244.09,-42.09 ; -244.09,42 -244.09,63 ; -228.35,-62.24 -228.35,-42.09 ; -228.35,42 -228.35,63 ; -212.6,-62.24 -212.6,-42.09 ; -212.6,42 -212.6,63 ; -196.85,-62.24 -196.85,-42.09 ; -196.85,42 -196.85,63 ; -181.1,-62.24 -181.1,-42.09 ; -181.1,42 -181.1,63 ; -165.35,-62.24 -165.35,-42.09 ; -165.35,42 -165.35,63 ; -149.61,-62.24 -149.61,-42.09 ; -149.61,42 -149.61,63 ; -133.86,-62.24 -133.86,-42.09 ; -133.86,42 -133.86,63 ; -118.11,-62.24 -118.11,-42.09 ; -118.11,42 -118.11,63 ; -102.36,-62.24 -102.36,-42.09 ; -102.36,42 -102.36,63 ; -86.61,-62.24 -86.61,-42.09 ; -86.61,42 -86.61,63 ; -70.87,-62.24 -70.87,-42.09 ; -70.87,42 -70.87,63 ; -55.12,-62.24 -55.12,-42.09 ; -55.12,42 -55.12,63 ; -39.37,-62.24 -39.37,-42.09 ; -39.37,42 -39.37,63 ; -23.62,-62.24 -23.62,-42.09 ; -23.62,42 -23.62,63 ; -7.87,-62.24 -7.87,-42.09 ; -7.87,42 -7.87,63 ; 8,-62.24 8,-42.09 ; 8,42 8,63 ; 24,-62.24 24,-42.09 ; 24,42 24,63 ; 40,-62.24 40,-42.09 ; 40,42 40,63 ; 56,-62.24 56,-42.09 ; 56,42 56,63 ; 71,-62.24 71,-42.09 ; 71,42 71,63 ; 87,-62.24 87,-42.09 ; 87,42 87,63 ; 103,-62.24 103,-42.09 ; 103,42 103,63 ; 119,-62.24 119,-42.09 ; 119,42 119,63 ; 134,-62.24 134,-42.09 ; 134,42 134,63 ; 150,-62.24 150,-42.09 ; 150,42 150,63 ; 166,-62.24 166,-42.09 ; 166,42 166,63 ; 182,-62.24 182,-42.09 ; 182,42 182,63 ; 197,-62.24 197,-42.09 ; 197,42 197,63 ; 213,-62.24 213,-42.09 ; 213,42 213,63 ; 229,-62.24 229,-42.09 ; 229,42 229,63 ; 245,-62.24 245,-42.09 ; 245,42 245,63 ; 260,-62.24 260,-42.09 ; 260,42 260,63

## DF40C-70DP-0.4(51) [mil]
pads (74):
  rect 8x45 smd far side: 1(268,52) 2(268,-51.97) 3(252,52) 4(252,-51.97) 5(237,52) 6(237,-51.97) 7(221,52) 8(221,-51.97) 9(205,52) 10(205,-51.97) 11(189,52) 12(189,-51.97) 13(174,52) 14(174,-51.97) 15(158,52) 16(158,-51.97) 17(142,52) 18(142,-51.97) 19(126,52) 20(126,-51.97) 21(111,52) 22(111,-51.97) 23(95,52) 24(95,-51.97) 25(79,52) 26(79,-51.97) 27(63,52) 28(63,-51.97) 29(48,52) 30(48,-51.97) 31(32,52) 32(32,-51.97) 33(16,52) 34(16,-51.97) 35(0,52) 36(0,-51.97) 37(-15.75,52) 38(-15.75,-51.97) 39(-31.5,52) 40(-31.5,-51.97) 41(-47.24,52) 42(-47.24,-51.97) 43(-62.99,52) 44(-62.99,-51.97) 45(-78.74,52) 46(-78.74,-51.97) 47(-94.49,52) 48(-94.49,-51.97) 49(-110.24,52) 50(-110.24,-51.97) 51(-125.98,52) 52(-125.98,-51.97) 53(-141.73,52) 54(-141.73,-51.97) 55(-157.48,52) 56(-157.48,-51.97) 57(-173.23,52) 58(-173.23,-51.97) 59(-188.98,52) 60(-188.98,-51.97) 61(-204.72,52) 62(-204.72,-51.97) 63(-220.47,52) 64(-220.47,-51.97) 65(-236.22,52) 66(-236.22,-51.97) 67(-251.97,52) 68(-251.97,-51.97) 69(-267.72,52) 70(-267.72,-51.97) NC1(284,52) NC2(284,-51.97) NC3(-283.46,-51.97) NC4(-283.46,52)
Bottom Overlay:
  circle w12: c304,40 r4
  lines w8: -330.71,-56.69 331,-56.69 331,57 -330.71,57 -330.71,-56.69
Mechanical 9:
  lines w2: -275.59,-62.24 -275.59,-42.09 ; -275.59,42 -275.59,63 ; -259.84,-62.24 -259.84,-42.09 ; -259.84,42 -259.84,63 ; -244.09,-62.24 -244.09,-42.09 ; -244.09,42 -244.09,63 ; -228.35,-62.24 -228.35,-42.09 ; -228.35,42 -228.35,63 ; -212.6,-62.24 -212.6,-42.09 ; -212.6,42 -212.6,63 ; -196.85,-62.24 -196.85,-42.09 ; -196.85,42 -196.85,63 ; -181.1,-62.24 -181.1,-42.09 ; -181.1,42 -181.1,63 ; -165.35,-62.24 -165.35,-42.09 ; -165.35,42 -165.35,63 ; -149.61,-62.24 -149.61,-42.09 ; -149.61,42 -149.61,63 ; -133.86,-62.24 -133.86,-42.09 ; -133.86,42 -133.86,63 ; -118.11,-62.24 -118.11,-42.09 ; -118.11,42 -118.11,63 ; -102.36,-62.24 -102.36,-42.09 ; -102.36,42 -102.36,63 ; -86.61,-62.24 -86.61,-42.09 ; -86.61,42 -86.61,63 ; -70.87,-62.24 -70.87,-42.09 ; -70.87,42 -70.87,63 ; -55.12,-62.24 -55.12,-42.09 ; -55.12,42 -55.12,63 ; -39.37,-62.24 -39.37,-42.09 ; -39.37,42 -39.37,63 ; -23.62,-62.24 -23.62,-42.09 ; -23.62,42 -23.62,63 ; -7.87,-62.24 -7.87,-42.09 ; -7.87,42 -7.87,63 ; 8,-62.24 8,-42.09 ; 8,42 8,63 ; 24,-62.24 24,-42.09 ; 24,42 24,63 ; 40,-62.24 40,-42.09 ; 40,42 40,63 ; 56,-62.24 56,-42.09 ; 56,42 56,63 ; 71,-62.24 71,-42.09 ; 71,42 71,63 ; 87,-62.24 87,-42.09 ; 87,42 87,63 ; 103,-62.24 103,-42.09 ; 103,42 103,63 ; 119,-62.24 119,-42.09 ; 119,42 119,63 ; 134,-62.24 134,-42.09 ; 134,42 134,63 ; 150,-62.24 150,-42.09 ; 150,42 150,63 ; 166,-62.24 166,-42.09 ; 166,42 166,63 ; 182,-62.24 182,-42.09 ; 182,42 182,63 ; 197,-62.24 197,-42.09 ; 197,42 197,63 ; 213,-62.24 213,-42.09 ; 213,42 213,63 ; 229,-62.24 229,-42.09 ; 229,42 229,63 ; 245,-62.24 245,-42.09 ; 245,42 245,63 ; 260,-62.24 260,-42.09 ; 260,42 260,63 ; 276,-62.24 276,-42.09 ; 276,42 276,63

## DUEMILANOVE_SHIELD [mil]
pads (30):
  round 130 hole 130: 1(100,250) 1(1800,2250)
  round 74 hole 40: 3.3V(2000,1050) 5V(2000,1150) A0(2000,1650) A1(2000,1750) A2(2000,1850) A3(2000,1950) A4(2000,2050) A5(2000,2150) AREF(100,600) D2(100,1950) D3(100,1850) D4(100,1750) D5(100,1650) D6(100,1550) D7(100,1450) D8(100,1300) D9(100,1200) D10(100,1100) D11(100,1000) D12(100,900) D13(100,800) GND@0(2000,1250) GND@1(2000,1350) GND@2(100,700) RES(2000,950) RX(100,2150) TX(100,2050) VIN(2000,1450)
Top Overlay:
  text "GND" at 1946,1270 h62
  text "GND" at 1946,1370 h62
  text "+5V" at 1946,1170 h62
  text "RST" at 1946,970 h62
  text "VIN" at 1946,1470 h62
  text "+3.3V" at 1946,1070 h62
  text "0" at 1946,1670 h62
  text "1" at 1946,1770 h62
  text "2" at 1946,1870 h62
  text "3" at 1946,1970 h62
  text "4" at 1946,2070 h62
  text "5" at 1946,2170 h62
  text "Analog In" at 1846,2055 h62
  text "GND" at 150,680 h62
  text "13" at 150,780 h62
  text "12" at 150,880 h62
  text "11" at 150,980 h62
  text "AREF" at 150,580 h62
  text "10" at 150,1080 h62
  text "9" at 150,1180 h62
  text "8" at 150,1280 h62
  text "7" at 150,1430 h62
  text "6" at 150,1530 h62
  text "5" at 150,1630 h62
  text "4" at 150,1730 h62
  text "3" at 150,1830 h62
  text "2" at 150,1930 h62
  text "TX" at 150,2030 h62
  text "RX" at 150,2130 h62
Mechanical 8:
  circle w5: c100,250 r75
  circle w5: c1800,2250 r75
Mechanical 9:
  circle w5: c100,250 r75
  circle w5: c1800,2250 r75
Mechanical 16:
  lines w5: 50,550 150,550 150,1350 50,1350 50,550 ; 50,1400 150,1400 150,2200 50,2200 50,1400 ; 1950,900 2050,900 2050,1500 1950,1500 1950,900 ; 1950,1600 2050,1600 2050,2200 1950,2200 1950,1600
  lines w10: 1583,-3.94 1583,-405.51 1938,-405.51 1938,-3.94 ; 375,0 100,0 0,100 0,2200 50,2250 500,2250 600,2350 1900,2350 2000,2250 2100,2250 2100,100 2000,0 855,0 ; 375,0 855,0 ; 375,0 375,-610.24 855,-610.24 855,0

## DUEMILANOVE_SHIELD_LONGPADS [mil]
pads (30):
  round 130 hole 130: 1(100,250) 1(1800,2250)
  oval 148x74 hole 40: 3.3V(2000,1050) 5V(2000,1150) A0(2000,1650) A1(2000,1750) A2(2000,1850) A3(2000,1950) A4(2000,2050) A5(2000,2150) AREF(100,600) D2(100,1950) D3(100,1850) D4(100,1750) D5(100,1650) D6(100,1550) D7(100,1450) D8(100,1300) D9(100,1200) D10(100,1100) D11(100,1000) D12(100,900) D13(100,800) GND@0(2000,1250) GND@1(2000,1350) GND@2(100,700) RES(2000,950) RX(100,2150) TX(100,2050) VIN(2000,1450)
Top Overlay:
  text "GND" at 1946,1270 h62
  text "GND" at 1946,1370 h62
  text "+5V" at 1946,1170 h62
  text "Reset" at 1946,970 h62
  text "Vin" at 1946,1470 h62
  text "+3.3V" at 1946,1070 h62
  text "0" at 1946,1670 h62
  text "1" at 1946,1770 h62
  text "2" at 1946,1870 h62
  text "3" at 1946,1970 h62
  text "4" at 1946,2070 h62
  text "5" at 1946,2170 h62
  text "Analog In" at 1846,2055 h62
  text "GND" at 150,680 h62
  text "13" at 150,780 h62
  text "12" at 150,880 h62
  text "11" at 150,980 h62
  text "Aref" at 150,580 h62
  text "10" at 150,1080 h62
  text "9" at 150,1180 h62
  text "8" at 150,1280 h62
  text "7" at 150,1430 h62
  text "6" at 150,1530 h62
  text "5" at 150,1630 h62
  text "4" at 150,1730 h62
  text "3" at 150,1830 h62
  text "2" at 150,1930 h62
  text "TX" at 150,2030 h62
  text "RX" at 150,2130 h62
Mechanical 8:
  circle w5: c100,250 r75
  circle w5: c1800,2250 r75
Mechanical 9:
  circle w5: c100,250 r75
  circle w5: c1800,2250 r75
Mechanical 16:
  lines w10: 1583,-3.94 1583,-405.51 1938,-405.51 1938,-3.94 ; 375,0 100,0 0,100 0,2200 50,2250 500,2250 600,2350 1900,2350 2000,2250 2100,2250 2100,100 2000,0 855,0 ; 375,0 855,0 ; 375,0 375,-610.24 855,-610.24 855,0